# Altium footprint library PCB_CCH_Touch_V1.0.PcbLib: 27 footprints (part 2 of 2)
Each footprint in its own frame and in the unit in brackets; x right, y up, seen from the top. Pads: shape width x height; smd on the part's side, far side on the other; paste and mask are expansions set on the pad; w line width, h text height; cw(c..) or ccw(c..) is an arc to the next point about the centre after c.
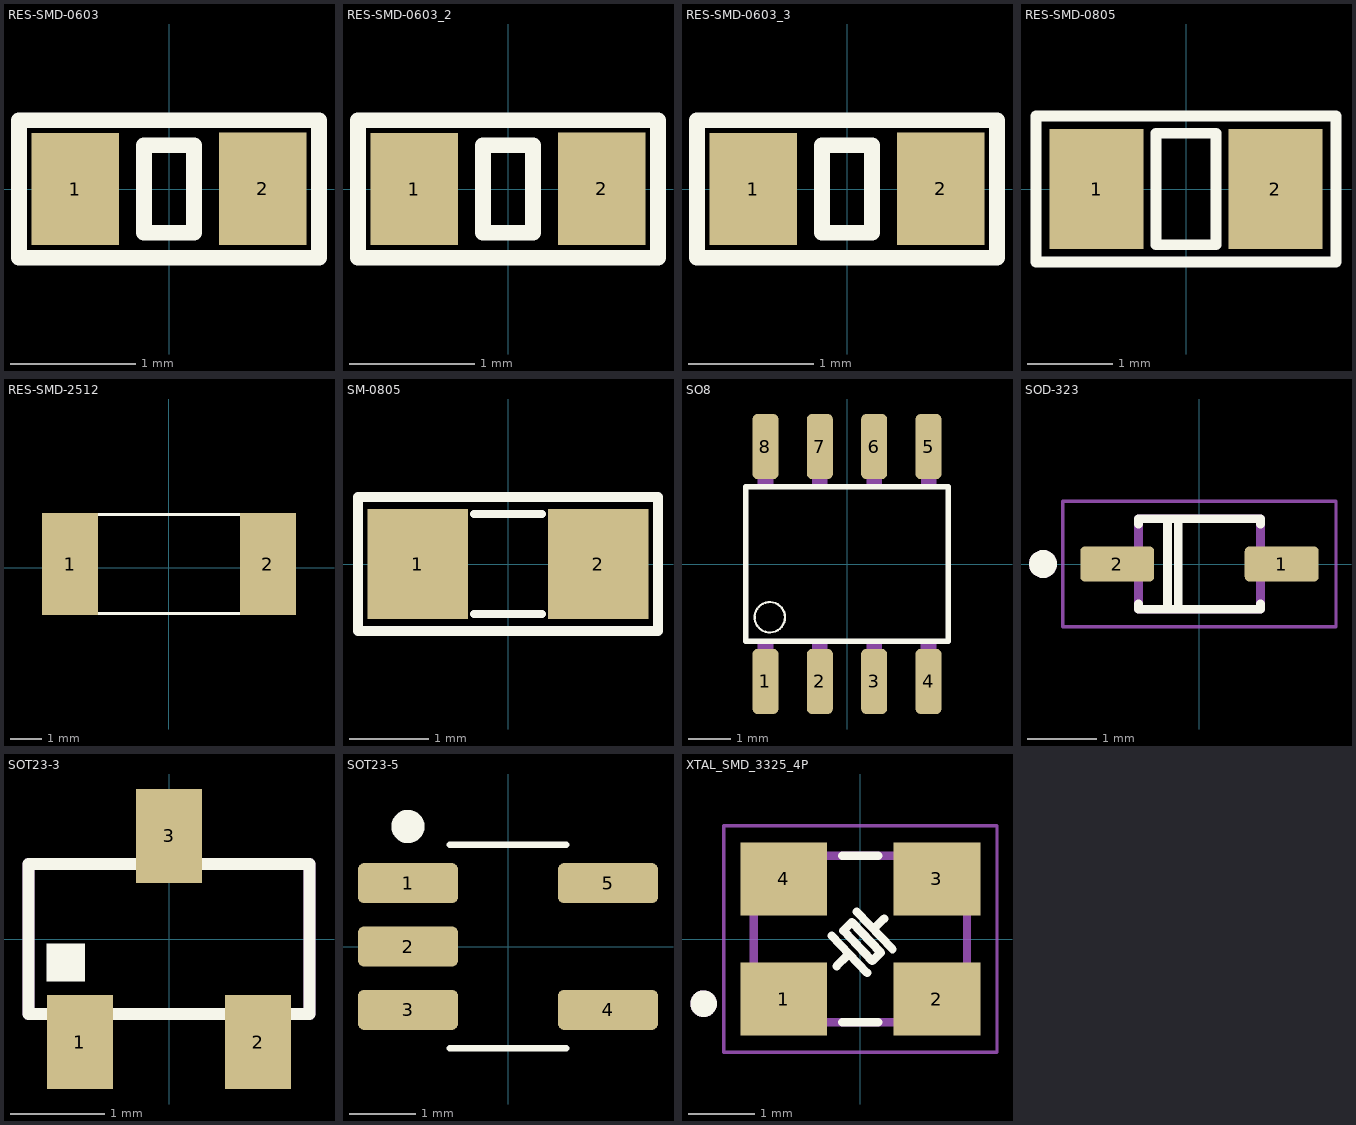
[diagram p1: the footprints below, top view; thin cyan lines are the x and y axes]

## RES-SMD-0603 [mm]
pads (2):
  rect 0.7x0.9 smd: 1(-0.75,0) 2(0.75,0)
Top Overlay:
  lines w0.127: -1.2,-0.55 1.2,-0.55 1.2,0.55 -1.2,0.55 -1.2,-0.55 ; -0.2,-0.35 0.2,-0.35 0.2,0.35 -0.2,0.35 -0.2,-0.35
3D body "User Library-SMD RESISTOR-1 (3).step": height 0.43, standoff -0.03, extent -0.8,-0.4 0.8,0.4

## RES-SMD-0603_2 [mm]
pads (2):
  rect 0.7x0.9 smd: 1(-0.75,0) 2(0.75,0)
Top Overlay:
  lines w0.127: -1.2,-0.55 -1.2,0.55 1.2,0.55 1.2,-0.55 -1.2,-0.55 ; -0.2,-0.35 -0.2,0.35 0.2,0.35 0.2,-0.35 -0.2,-0.35
3D body "User Library-SMD RESISTOR-1 (3).step": height 0.43, standoff -0.03, extent -0.8,-0.4 0.8,0.4

## RES-SMD-0603_3 [mm]
pads (2):
  rect 0.7x0.9 smd: 1(-0.75,0) 2(0.75,0)
Top Overlay:
  lines w0.127: -1.2,-0.55 1.2,-0.55 1.2,0.55 -1.2,0.55 -1.2,-0.55 ; -0.2,-0.35 0.2,-0.35 0.2,0.35 -0.2,0.35 -0.2,-0.35
3D body "User Library-SMD RESISTOR-1 (3).step": height 0.43, standoff -0.03, extent -0.8,-0.4 0.8,0.4

## RES-SMD-0805 [mm]
pads (2):
  rect 1.1x1.4 smd: 1(-1.043,0) 2(1.043,0)
Top Overlay:
  lines w0.127: -1.75,-0.85 1.75,-0.85 1.75,0.85 -1.75,0.85 -1.75,-0.85 ; -0.35,-0.65 0.35,-0.65 0.35,0.65 -0.35,0.65 -0.35,-0.65
3D body "User Library-RES_2013-0805.STEP": height 0.77, standoff 0.01, extent -1.15,-0.675 1.15,0.675

## RES-SMD-2512 [mm]
pads (2):
  rect 1.8x3.3 smd: 1(-3.2,0.127) 2(3.2,0.127)
Top Overlay:
  lines w0.1: -3.2,-1.473 3.2,-1.473 3.2,1.727 -3.2,1.727 -3.2,-1.473
3D body "User Library-SMD RESISTOR-1 (9).step": height 0.6, standoff 0, extent -3.2,-1.473 3.2,1.727

## SM-0805 [mil]
pads (2):
  rect 50x55 smd: 1(-45,0) 2(45,0)
Top Overlay:
  lines w4: -17,-25 17,-25 ; -17,25 17,25
  lines w5: -74.8,-33.46 74.8,-33.46 74.8,33.46 -74.8,33.46 -74.8,-33.46
3D body "SW3dPS-smt_resistor_packages.STEP": height 24.02, standoff -0.39, extent -39.76,-27 39.77,23

## SO8 [mil]
pads (8):
  rrect40% 24x60 smd: 1(-75,-108) 2(-25,-108) 3(25,-108) 4(75,-108) 5(75,108) 6(25,108) 7(-25,108) 8(-75,108)
Top Overlay:
  circle w2: c-71,-49 r14
  lines w5: -93,-71 -93,71 93,71 93,-71 -93,-71
Mechanical 13:
  region: 82,73.07 68.09,73.07 68.09,113 82,113
  region: 32,73.04 18.02,73.04 18.02,113 32,113
  region: -18,73.08 -32.01,73.08 -32.01,113 -18,113
  region: -68,73.12 -82.09,73.12 -82.09,113 -68,113
  region: 82,-113.01 68.01,-113.01 68.01,-73 82,-73
  region: 32,-113.06 18.02,-113.06 18.02,-73 32,-73
  region: -18,-113.21 -32.01,-113.21 -32.01,-73 -18,-73
  region: -68,-113.07 -82.04,-113.07 -82.04,-73 -68,-73
3D body "TJA1020.STEP": height 68.9, standoff 0, extent -96.46,-118.11 96.45,118.11

## SOD-323 [mm]
pads (2):
  rrect25% 1.06x0.5 smd: 1(1.18,0) 2(-1.18,0)
Top Overlay:
  circle w0.2: c-2.246,0 r0.1
  lines w0.127: -0.875,-0.57 -0.875,-0.65 0.875,-0.65 0.875,-0.57 ; -0.875,0.57 -0.875,0.65 0.875,0.65 0.875,0.57 ; -0.457,-0.635 -0.457,0.635 ; -0.305,-0.61 -0.305,0.61
Mechanical 13:
  circle w0.2: c-2.246,0 r0.1
  lines w0.127: -0.875,-0.65 0.875,-0.65 0.875,0.65 -0.875,0.65 -0.875,-0.65
Mechanical 15:
  lines w0.05: -1.96,-0.9 1.96,-0.9 1.96,0.9 -1.96,0.9 -1.96,-0.9
3D body "SOD-323.STEP": height 1.17, standoff 0.02, extent -1.35,-0.723 1.35,0.723

## SOT23-3 [mm]
pads (3):
  rect 0.7x1 smd: 1(-0.95,-1.1) 2(0.95,-1.1) 3(0,1.1)
Top Overlay:
  region: -0.9,-0.45 -1.303,-0.45 -1.303,-0.05 -0.9,-0.05
  lines w0.127: -1.5,-0.8 1.5,-0.8 1.5,0.8 -1.5,0.8 -1.5,-0.8
Mechanical 13:
  region: -0.75,-1.402 -1.152,-1.402 -1.152,-0.8 -0.75,-0.8
  region: 1.15,-1.402 0.751,-1.402 0.751,-0.8 1.15,-0.8
  region: 0.2,0.802 -0.2,0.802 -0.2,1.4 0.2,1.4
  lines w0.127: -1.5,-0.8 1.5,-0.8 1.5,0.8 -1.5,0.8 -1.5,-0.8
3D body "SI2302DS--3DModel-STEP-269445.STEP": height 1.1, standoff 0, extent -1.45,-1.15 1.45,1.15

## SOT23-5 [mm]
pads (5):
  rrect30% 1.5x0.6 smd: 1(-1.5,0.95) 2(-1.5,0) 3(-1.5,-0.95) 4(1.5,-0.95) 5(1.5,0.95)
Top Overlay:
  circle w0.25: c-1.5,1.8 r0.125
  lines w0.1: -0.875,-1.525 0.875,-1.525 ; -0.875,1.525 0.875,1.525
3D body "MCP3021A0T-E_OT.STEP": height 1.45, standoff 0, extent -1.35,-1.45 1.35,1.45

## XTAL_SMD_3325_4P [mm]
pads (4):
  rect 1.3x1.1 smd: 1(-1.15,-0.9) 2(1.15,-0.9) 3(1.15,0.9) 4(-1.15,0.9)
Top Overlay:
  circle w0.2: c-2.35,-0.97 r0.1
  lines w0.127: -0.432,0.051 0.102,-0.508 ; -0.356,-0.406 -0.203,-0.254 ; -0.27,-1.25 0.27,-1.25 ; -0.27,1.25 0.27,1.25 ; -0.051,0.406 0.483,-0.152 ; 0.229,0.178 0.356,0.305 ; -0.254,0.127 0.178,-0.33 0.279,-0.229 0.305,-0.203 -0.127,0.254 -0.254,0.127
Mechanical 13:
  circle w0.2: c-2.35,-0.97 r0.1
  lines w0.127: -1.6,-1.25 1.6,-1.25 1.6,1.25 -1.6,1.25 -1.6,-1.25
Mechanical 15:
  lines w0.05: -2.05,-1.7 2.05,-1.7 2.05,1.7 -2.05,1.7 -2.05,-1.7
3D body "ECS-480-8-33B-CWY-TR3.STEP": height 0.8, standoff 0, extent -1.6,-1.25 1.6,1.25